# EAGLE library part TCA0372 (library ic)
1.0A Output Current, Dual Power Operational Amplifiers http://www.ece.rice.edu/~jdw/data_sheets/TCA0372-D.pdf
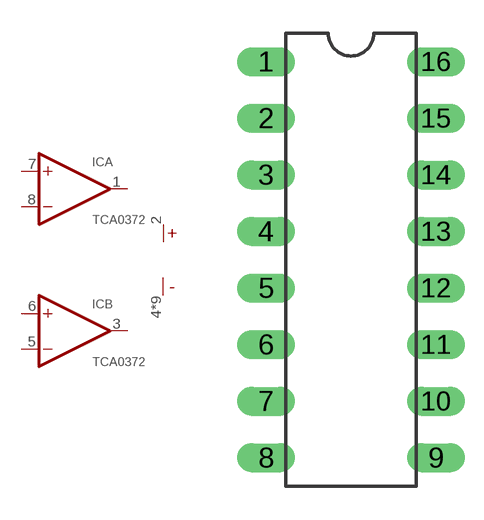
[diagram p21: symbol with the pads of DIL16; footprint DIL16]

Designator prefix IC; gates A=OPAMP B=OPAMP 3=PWR+-

## TCA0372  [DIL16]
1  A:OUT  out
2  3:V+  pwr
3  B:OUT  out
4  3:V-  pwr
5  B:-IN  in
6  B:+IN  in
7  A:+IN  in
8  A:-IN  in
9  3:V-  pwr
10  3:V-  pwr
11  3:V-  pwr
12  3:V-  pwr
13  3:V-  pwr
14  3:V-  pwr
15  3:V-  pwr
16  3:V-  pwr

## Footprint DIL16 (pad centres in mm)
drill 0.8 long: 1 -3.81,8.89; 2 -3.81,6.35; 3 -3.81,3.81; 4 -3.81,1.27; 5 -3.81,-1.27; 6 -3.81,-3.81; 7 -3.81,-6.35; 8 -3.81,-8.89; 9 3.81,-8.89; 10 3.81,-6.35; 11 3.81,-3.81; 12 3.81,-1.27; 13 3.81,1.27; 14 3.81,3.81; 15 3.81,6.35; 16 3.81,8.89